# EAGLE library part FULL_PRO_DIE_SMD (library FULL_PRO_DIE_SMD)
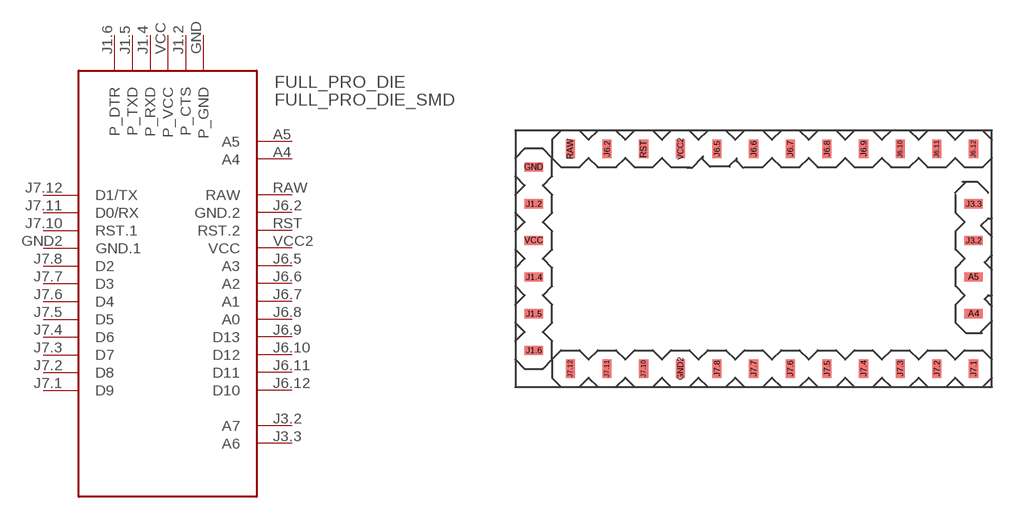
[diagram p0: symbol with the pads of FULL_PRO_DIE_SMD; footprint FULL_PRO_DIE_SMD]

Designator prefix FULL_PRO_DIE

## FULL_PRO_DIE_SMD  [FULL_PRO_DIE_SMD]
A4  A4
A5  A5
GND  P_GND
GND2  GND.1  pwr
J1.2  P_CTS
J1.4  P_RXD
J1.5  P_TXD
J1.6  P_DTR
J3.2  A7
J3.3  A6
J6.2  GND.2  pwr
J6.5  A3
J6.6  A2
J6.7  A1
J6.8  A0
J6.9  D13
J6.10  D12
J6.11  D11
J6.12  D10
J7.1  D9
J7.2  D8
J7.3  D7
J7.4  D6
J7.5  D5
J7.6  D4
J7.7  D3
J7.8  D2
J7.10  RST.1
J7.11  D0/RX
J7.12  D1/TX
RAW  RAW  pwr
RST  RST.2
VCC  P_VCC
VCC2  VCC  pwr

## Footprint FULL_PRO_DIE_SMD (pad centres in mm)
smd 1.27 x 0.635: A4 19.05,-6.35; A5 19.05,-3.81; GND -11.43,3.81; J1.2 -11.43,1.27; J1.4 -11.43,-3.81; J1.5 -11.43,-6.35; J1.6 -11.43,-8.89; J3.2 19.05,-1.27; J3.3 19.05,1.27; VCC -11.43,-1.27
smd 0.635 x 1.27: GND2 -1.27,-10.16; J6.2 -6.35,5.08; J6.5 1.27,5.08; J6.6 3.81,5.08; J6.7 6.35,5.08; J6.8 8.89,5.08; J6.9 11.43,5.08; J6.10 13.97,5.08; J6.11 16.51,5.08; J6.12 19.05,5.08; J7.1 19.05,-10.16; J7.2 16.51,-10.16; J7.3 13.97,-10.16; J7.4 11.43,-10.16; J7.5 8.89,-10.16; J7.6 6.35,-10.16; J7.7 3.81,-10.16; J7.8 1.27,-10.16; J7.10 -3.81,-10.16; J7.11 -6.35,-10.16; J7.12 -8.89,-10.16; RAW -8.89,5.08; RST -3.81,5.08; VCC2 -1.27,5.08